# Altium footprint library Transistors.PcbLib: 7 footprints
Each footprint in its own frame and in the unit in brackets; x right, y up, seen from the top. Pads: shape width x height; smd on the part's side, far side on the other; paste and mask are expansions set on the pad; w line width, h text height; cw(c..) or ccw(c..) is an arc to the next point about the centre after c.
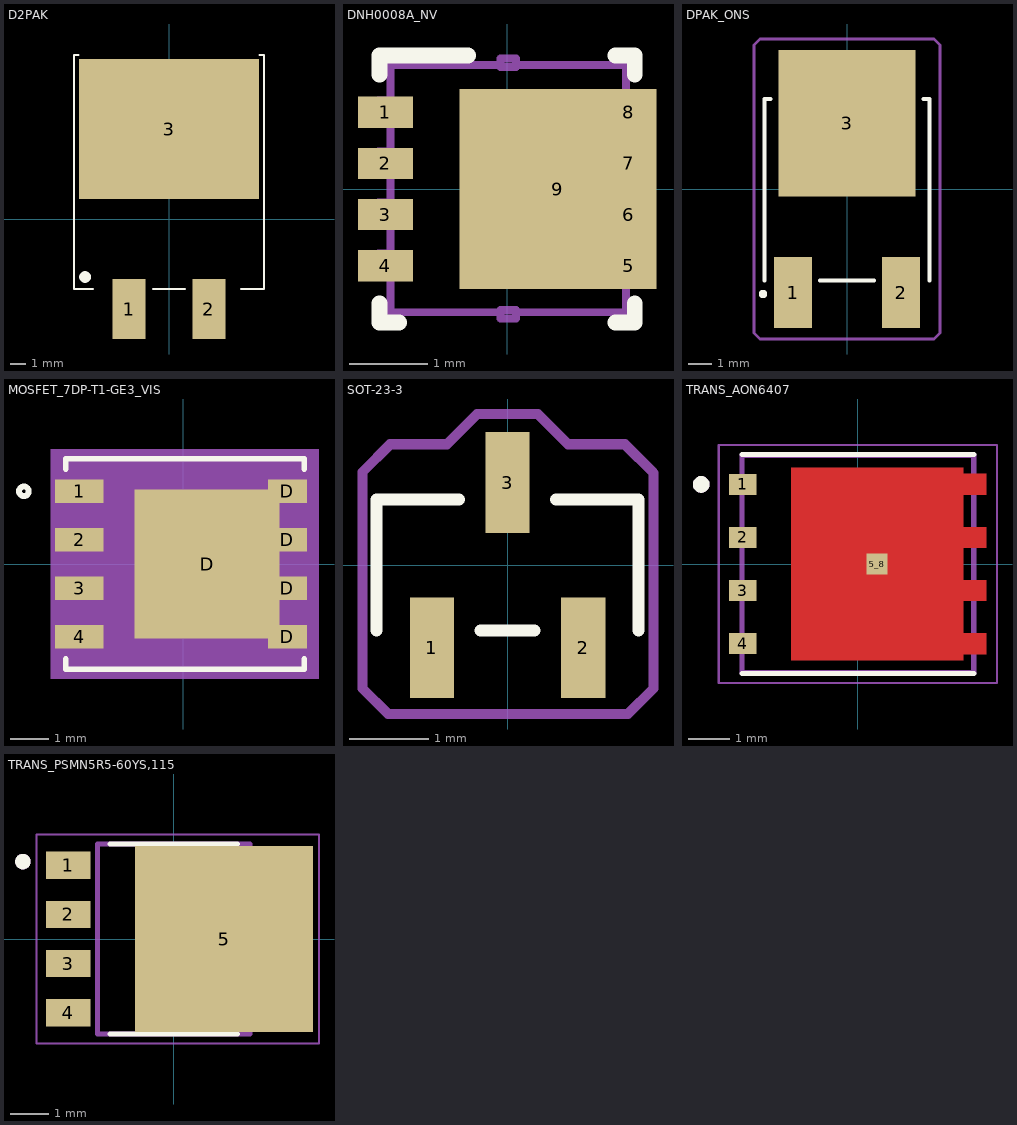
[diagram p0: the footprints below, top view; thin cyan lines are the x and y axes]

## D2PAK [mil] "D2PAK (TO-263-3)"
pads (3):
  rect 82x150 smd: 1(-100,-225) 2(100,-225)
  rect 450x350 smd: 3(0,225)
Top Overlay:
  circle w25: c-210,-145 r2
  lines w6: -227.1,410 -237.5,410 -237.5,-175 -190,-175 ; -40,-175 40,-175 ; 180,-175 237.5,-175 237.5,410 227.1,410
3D body "User Library-d2pak_a.step": height 177.67, standoff -0.74, extent -200.79,-233.6 200.78,357.21

## DNH0008A_NV [mm]
pads (9):
  rect 0.7x0.4 smd paste-0.05 mask-0.051: 1(-1.55,0.975) 2(-1.55,0.325) 3(-1.55,-0.325) 4(-1.55,-0.975) 5(1.55,-0.975) 6(1.55,-0.325) 7(1.55,0.325) 8(1.55,0.975)
  rect 2.51x2.55 smd paste-1.262 mask-1.257: 9(0.645,0)
Top Overlay:
  lines w0.2: -1.625,-1.453 -1.625,-1.7 -1.378,-1.7 ; -1.625,1.453 -1.625,1.7 -0.5,1.7 ; 1.378,-1.7 1.625,-1.7 1.625,-1.453 ; 1.378,1.7 1.625,1.7 1.625,1.453
Top Paste:
  region: 0.346,0.14 0.345,0.149 0.345,1.176 0.346,1.185 0.349,1.195 0.353,1.203 0.359,1.211 0.367,1.217 0.375,1.221 0.385,1.224 0.394,1.225 1.001,1.225 1.01,1.224 1.02,1.221 1.028,1.217 1.036,1.211 1.042,1.203 1.046,1.195 1.049,1.185 1.05,1.176 1.05,0.149 1.049,0.14 1.046,0.13 1.042,0.122 1.036,0.114 1.028,0.108 1.02,0.104 1.01,0.101 1.001,0.1 0.394,0.1 0.385,0.101 0.375,0.104 0.367,0.108 0.359,0.114 0.353,0.122 0.349,0.13
  region: 0.346,-1.185 0.345,-1.176 0.345,-0.149 0.346,-0.14 0.349,-0.13 0.353,-0.122 0.359,-0.114 0.367,-0.108 0.375,-0.104 0.385,-0.101 0.394,-0.1 1.001,-0.1 1.01,-0.101 1.02,-0.104 1.028,-0.108 1.036,-0.114 1.042,-0.122 1.046,-0.13 1.049,-0.14 1.05,-0.149 1.05,-1.176 1.049,-1.185 1.046,-1.195 1.042,-1.203 1.036,-1.211 1.028,-1.217 1.02,-1.221 1.01,-1.224 1.001,-1.225 0.394,-1.225 0.385,-1.224 0.375,-1.221 0.367,-1.217 0.359,-1.211 0.353,-1.203 0.349,-1.195
  region: 0.144,-0.14 0.145,-0.149 0.145,-1.176 0.144,-1.185 0.141,-1.195 0.137,-1.203 0.131,-1.211 0.123,-1.217 0.115,-1.221 0.105,-1.224 0.096,-1.225 -0.511,-1.225 -0.52,-1.224 -0.53,-1.221 -0.538,-1.217 -0.546,-1.211 -0.552,-1.203 -0.556,-1.195 -0.559,-1.185 -0.56,-1.176 -0.56,-0.149 -0.559,-0.14 -0.556,-0.13 -0.552,-0.122 -0.546,-0.114 -0.538,-0.108 -0.53,-0.104 -0.52,-0.101 -0.511,-0.1 0.096,-0.1 0.105,-0.101 0.115,-0.104 0.123,-0.108 0.131,-0.114 0.137,-0.122 0.141,-0.13
  region: 0.144,1.185 0.145,1.176 0.145,0.149 0.144,0.14 0.141,0.13 0.137,0.122 0.131,0.114 0.123,0.108 0.115,0.104 0.105,0.101 0.096,0.1 -0.511,0.1 -0.52,0.101 -0.53,0.104 -0.538,0.108 -0.546,0.114 -0.552,0.122 -0.556,0.13 -0.559,0.14 -0.56,0.149 -0.56,1.176 -0.559,1.185 -0.556,1.195 -0.552,1.203 -0.546,1.211 -0.538,1.217 -0.53,1.221 -0.52,1.224 -0.511,1.225 0.096,1.225 0.105,1.224 0.115,1.221 0.123,1.217 0.131,1.211 0.137,1.203 0.141,1.195
Top Solder:
  region: 0.925,0.475 0.925,0.175 1.425,0.175 1.425,0.475
  region: 0.925,-0.175 0.925,-0.475 1.425,-0.475 1.425,-0.175
  region: 0.925,-0.825 0.925,-1.125 1.425,-1.125 1.425,-0.825
  region: 0.925,1.125 0.925,0.825 1.425,0.825 1.425,1.125
  region: -0.559,-1.182 -0.56,-1.172 -0.56,1.172 -0.559,1.182 -0.556,1.192 -0.551,1.201 -0.544,1.209 -0.536,1.216 -0.527,1.221 -0.517,1.224 -0.507,1.225 1.162,1.225 1.172,1.224 1.182,1.221 1.191,1.216 1.199,1.209 1.206,1.201 1.211,1.192 1.214,1.182 1.215,1.172 1.215,-1.172 1.214,-1.182 1.211,-1.192 1.206,-1.201 1.199,-1.209 1.191,-1.216 1.182,-1.221 1.172,-1.224 1.162,-1.225 -0.507,-1.225 -0.517,-1.224 -0.527,-1.221 -0.536,-1.216 -0.544,-1.209 -0.551,-1.201 -0.556,-1.192
Mechanical 13:
  lines w0.1: -1.487,-1.119 -1.487,-1.569 -0.087,-1.569 ; -1.487,-0.819 -1.487,-0.469 ; -1.487,-0.169 -1.487,0.181 ; -1.487,0.481 -1.487,0.831 ; -1.487,1.131 -1.487,1.581 -0.087,1.581 ; 0.113,-1.569 1.513,-1.569 1.513,-1.119 ; 0.113,1.581 1.513,1.581 1.513,1.131 ; 1.513,-0.819 1.513,-0.469 ; 1.513,-0.169 1.513,0.181 ; 1.513,0.481 1.513,0.831 ; -1.637,-1.119 -1.637,-0.819 -1.461,-0.819 -1.461,-1.119 -1.637,-1.119 ; -1.637,-0.469 -1.637,-0.169 -1.461,-0.169 -1.461,-0.469 -1.637,-0.469 ; -1.637,0.181 -1.461,0.181 -1.461,0.481 -1.637,0.481 -1.637,0.181 ; -1.637,0.831 -1.637,1.131 -1.461,1.131 -1.461,0.831 -1.637,0.831 ; -0.087,-1.649 -0.087,-1.543 0.113,-1.543 0.113,-1.649 -0.087,-1.649 ; -0.087,1.554 0.113,1.554 0.113,1.661 -0.087,1.661 -0.087,1.554 ; 1.486,-1.119 1.486,-0.819 1.663,-0.819 1.663,-1.119 1.486,-1.119 ; 1.486,-0.469 1.486,-0.169 1.663,-0.169 1.663,-0.469 1.486,-0.469 ; 1.486,0.181 1.486,0.481 1.663,0.481 1.663,0.181 1.486,0.181 ; 1.486,0.831 1.486,1.131 1.663,1.131 1.663,0.831 1.486,0.831
3D body: height 0.25, standoff 0, extent 0,0 0.254,0.254

## DPAK_ONS [mil]
pads (3):
  rect 63x118 smd: 1(-90,-172.5) 2(90,-172.5)
  rect 228x244 smd: 3(0,109.5)
Top Overlay:
  circle w10: c-140,-175 r2
  lines w6: -137.5,-152.5 -137.5,150 -127.1,150 ; -45.4,-152.5 45.4,-152.5 ; 127.1,150 137.5,150 137.5,-152.5
Boundary:
  lines w5: -155,-240 -145,-250 145,-250 155,-240 155,240 145,250 -145,250 -155,240 -155,-240
3D body: height 10, standoff 0, extent 0,0 10,10
3D body "IRFR5305TRPBF_INF.step": height 94.09, standoff -2.01, extent -128.5,-156.41 128.51,160.12

## MOSFET_7DP-T1-GE3_VIS [mil]
pads (9):
  rect 50x24 smd: 1(-107.5,75) 2(-107.5,25) 3(-107.5,-25) 4(-107.5,-75)
  rect 150x154 smd: D(24.5,0)
  rect 40x24 smd: D(107.5,-75) D(107.5,-25) D(107.5,25) D(107.5,75)
Top Layer:
  region: 1.75,-77
  region: 1.75,77
Top Overlay:
  circle w6: c-164.5,75 r5
  lines w6: -121.25,-98.1 -121.25,-108.5 124.75,-108.5 124.75,-98.1 ; -121.25,98.1 -121.25,108.5 124.75,108.5 124.75,98.1
Top Solder:
  region: 1.75,-77
  region: 1.75,77
Boundary (Mech5):
  region: 140,-118.5 -136.5,-118.5 -136.5,118.5 140,118.5
Mechanical 13:
  circle w0: c-93.5,75 r3
  lines w0: -10.25,103.5 ccw(c1.75,103.5) 13.75,103.5
  lines w1: -116.25,-103.5 -116.25,103.5 119.75,103.5 119.75,-103.5 -116.25,-103.5
Mechanical 15:
  region: -126.25,-95 -131.5,-95 -131.5,95 -126.25,95 -126.25,113.5 129.75,113.5 129.75,95 135,95 135,-95 129.75,-95 129.75,-113.5 -126.25,-113.5
  lines w6: -131.5,-95 -126.25,-95 -126.25,-113.5 129.75,-113.5 129.75,-95 135,-95 135,95 129.75,95 129.75,113.5 -126.25,113.5 -126.25,95 -131.5,95 -131.5,-95
3D body: height 10, standoff 0, extent 1.75,0 11.75,10
3D body "MOSFET-PowerPAK SO-8 (S).step": height 41.44, standoff 0.5, extent -121.06,-101.38 121.06,101.38

## SOT-23-3 [mil]
pads (3):
  rect 22x50 smd paste+0 mask+4: 1(-37.5,-41) 2(37.5,-41) 3(0,41)
Top Overlay:
  lines w6: -65,-32.5 -65,32.5 -24.1,32.5 ; -13.4,-32.5 13.4,-32.5 ; 24.1,32.5 65,32.5 65,-32.5
Boundary:
  lines w5: -71.94,-61.15 -71.94,46.26 -58.2,60 -30,60 -15,75 15,75 30,60 58.21,60 72.42,45.79 72.42,-61.15 59.72,-73.85 -59.24,-73.85 -71.94,-61.15
Mechanical 13:
  lines w1: -47.5,-52 -27.5,-52 -27.5,-27.5 -47.5,-27.5 -47.5,-52 ; -10,27.5 -10,52 10,52 10,27.5 -10,27.5 ; 27.5,-52 47.5,-52 47.5,-27.5 27.5,-27.5 27.5,-52
3D body "SOT-23_3L_ONS.step": height 44.09, standoff 0, extent -60,-52 60,52.01

## TRANS_AON6407 [mm]
pads (5):
  rect 0.65x0.5 smd: 1(-2.755,1.905) 2(-2.755,0.635) 3(-2.755,-0.635) 4(-2.755,-1.905)
  rect 0.5x0.5 smd paste-1 mask+0: 5_8(0.46,0)
Top Layer:
  region: 2.52,2.155 3.07,2.155 3.07,1.655 2.52,1.655 2.52,0.885 3.07,0.885 3.07,0.385 2.52,0.385 2.52,-0.385 3.07,-0.385 3.07,-0.885 2.52,-0.885 2.52,-1.655 3.07,-1.655 3.07,-2.155 2.52,-2.155 2.52,-2.3 -1.6,-2.3 -1.6,2.3 2.52,2.3
Top Overlay:
  circle w0.2: c-3.75,1.905 r0.1
  lines w0.127: -2.775,-2.62 2.775,-2.62 ; -2.775,2.62 2.775,2.62
Top Paste:
  region: 0.14,0.32 -1.28,0.32 -1.28,1.98 0.14,1.98
  region: 3.07,1.655 2.525,1.655 2.525,2.155 3.07,2.155
  region: 3.07,0.385 2.525,0.385 2.525,0.885 3.07,0.885
  region: 3.07,-0.885 2.525,-0.885 2.525,-0.385 3.07,-0.385
  region: 3.07,-2.155 2.525,-2.155 2.525,-1.655 3.07,-1.655
  region: 0.14,-1.98 -1.28,-1.98 -1.28,-0.32 0.14,-0.32
  region: 2.2,0.32 0.78,0.32 0.78,1.98 2.2,1.98
  region: 2.2,-1.98 0.78,-1.98 0.78,-0.32 2.2,-0.32
Top Solder:
  region: 2.62,2.255 3.17,2.255 3.17,1.555 2.62,1.555 2.62,0.985 3.17,0.985 3.17,0.285 2.62,0.285 2.62,-0.285 3.17,-0.285 3.17,-0.985 2.62,-0.985 2.62,-1.555 3.17,-1.555 3.17,-2.255 2.62,-2.255 2.62,-2.4 -1.7,-2.4 -1.7,2.4 2.62,2.4
Mechanical 13:
  circle w0.2: c-3.75,1.905 r0.1
  lines w0.127: -2.775,-2.6 -2.775,2.6 2.775,2.6 2.775,-2.6 -2.775,-2.6
Mechanical 15:
  lines w0.05: -3.33,-2.85 3.33,-2.85 3.33,2.85 -3.33,2.85 -3.33,-2.85
3D body "step_temp.STEP": height 0.95, standoff -0.05, extent -2.75,-3.025 2.75,3.025

## TRANS_PSMN5R5-60YS,115 [mm]
pads (5):
  rect 1.15x0.7 smd paste-2 mask+0: 1(-2.725,1.905) 2(-2.725,0.635) 3(-2.725,-0.635) 4(-2.725,-1.905)
  rect 4.6x4.8 smd paste-1 mask+0: 5(1.3,0)
Top Overlay:
  circle w0.2: c-3.9,2 r0.1
  lines w0.127: -1.65,-2.45 1.65,-2.45 ; -1.65,2.45 1.65,2.45
Top Paste:
  region: -2.2,0.335 -3.25,0.335 -3.25,0.935 -2.2,0.935
  region: -2.2,1.605 -3.25,1.605 -3.25,2.205 -2.2,2.205
  region: -2.2,-0.935 -3.25,-0.935 -3.25,-0.335 -2.2,-0.335
  region: -2.2,-2.205 -3.25,-2.205 -3.25,-1.605 -2.2,-1.605
Top Solder:
  region: -2.075,0.21 -3.375,0.21 -3.375,1.06 -2.075,1.06
  region: -2.075,1.48 -3.375,1.48 -3.375,2.33 -2.075,2.33
  region: -2.075,-1.06 -3.375,-1.06 -3.375,-0.21 -2.075,-0.21
  region: -2.075,-2.33 -3.375,-2.33 -3.375,-1.48 -2.075,-1.48
Mechanical 13:
  circle w0.2: c-3.9,2 r0.1
  lines w0.127: -1.975,-2.45 1.975,-2.45 1.975,2.45 -1.975,2.45 -1.975,-2.45
Mechanical 15:
  lines w0.05: -3.55,-2.7 3.75,-2.7 3.75,2.7 -3.55,2.7 -3.55,-2.7
3D body "step_temp.STEP": height 1.2, standoff 0, extent -3,-2.45 3,2.45